# Altium footprint library HyTechDevices.PCBLIB: 298 footprints (part 4 of 19)
Each footprint in its own frame and in the unit in brackets; x right, y up, seen from the top. Pads: shape width x height; smd on the part's side, far side on the other; paste and mask are expansions set on the pad; w line width, h text height; cw(c..) or ccw(c..) is an arc to the next point about the centre after c.
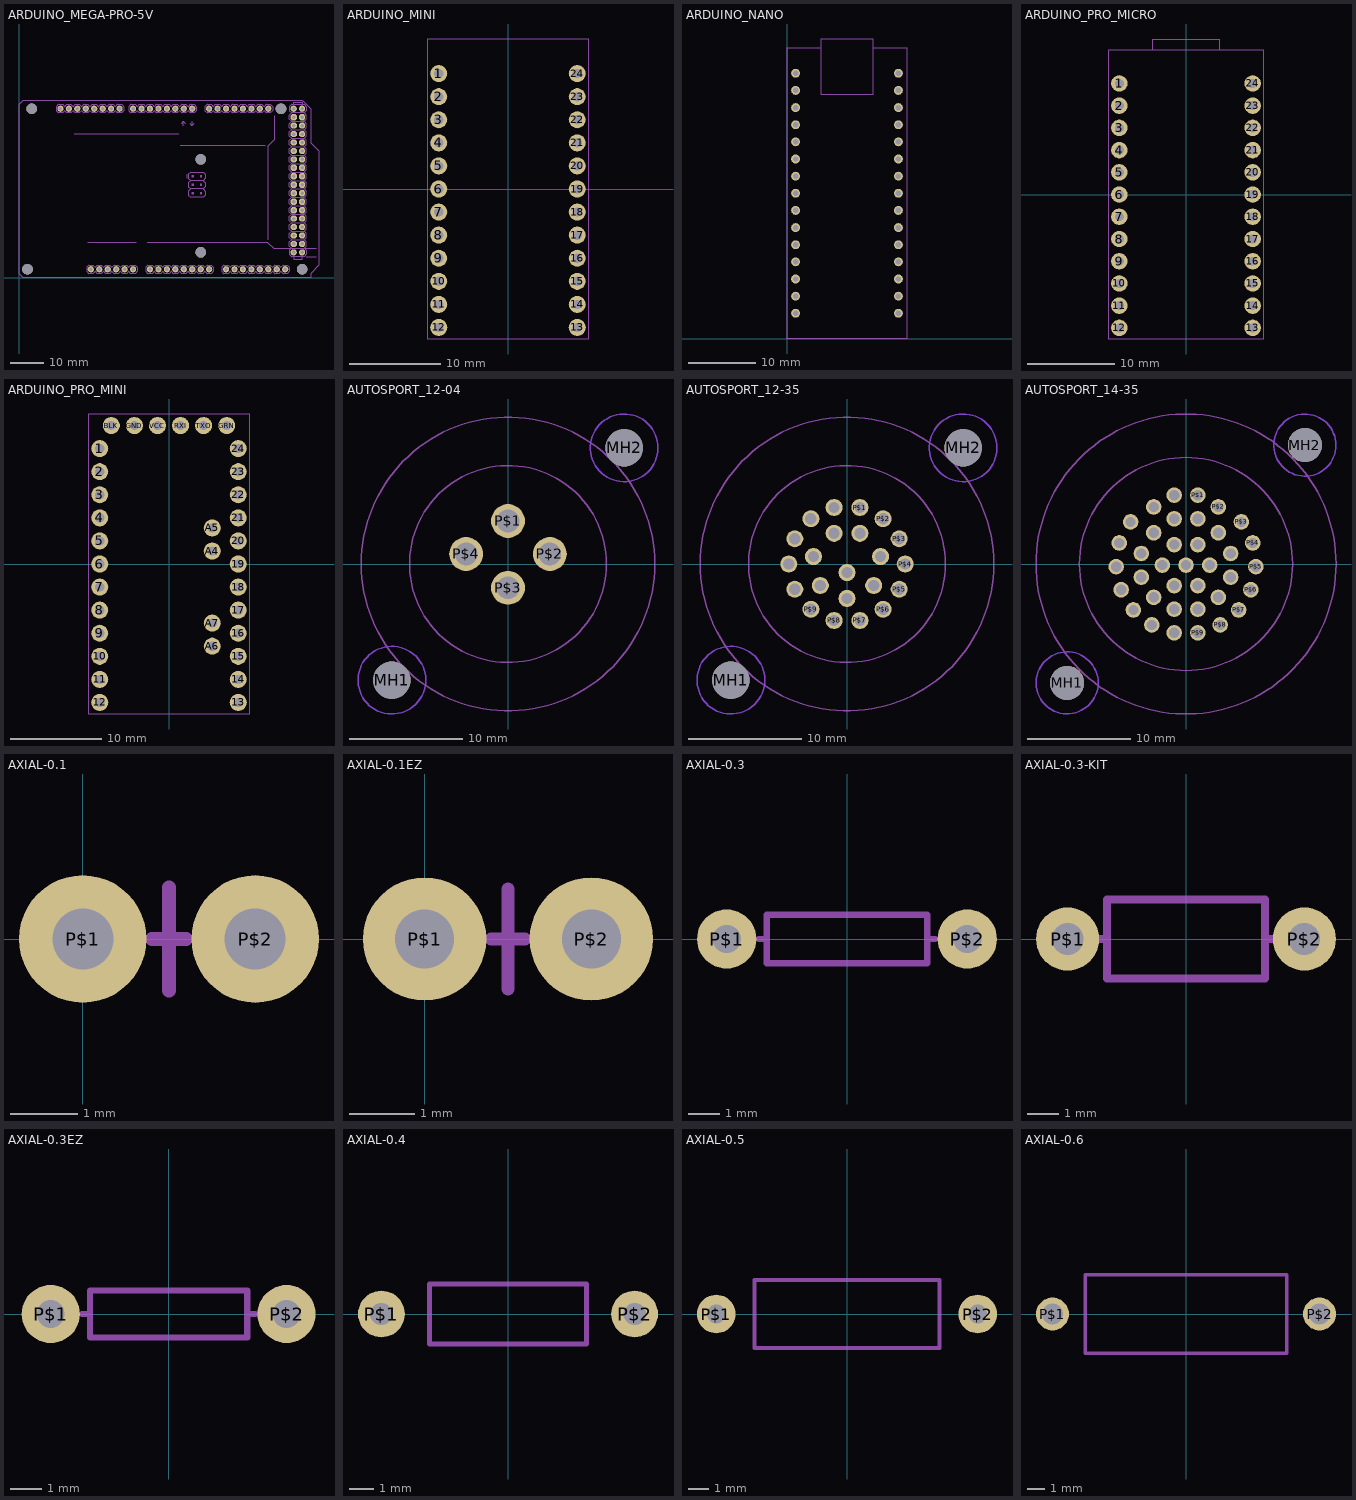
[diagram p3: the footprints below, top view; thin cyan lines are the x and y axes]

## ARDUINO_MEGA-PRO-5V [mil]
pads (88):
  round 74 hole 40: 0(2050,2000) 1(1950,2000) 2(1850,2000) 3(1750,2000) 3.3V(950,100) 4(1650,2000) 5(1550,2000) 5V@0(1050,100) 5V@1(3250,2000) 5V@2(3350,2000) 6(1450,2000) 7(1350,2000) 8(1190,2000) 9(1090,2000) 10(990,2000) 11(890,2000) 12(790,2000) 13(690,2000) 14(2250,2000) 15(2350,2000) 16(2450,2000) 17(2550,2000) 18(2650,2000) 19(2750,2000) 20(2850,2000) 21(2950,2000) A0(1550,100) A1(1650,100) A2(1750,100) A3(1850,100) A4(1950,100) A5(2050,100) A6(2150,100) A7(2250,100) A8(2450,100) A9(2550,100) A10(2650,100) A11(2750,100) A12(2850,100) A13(2950,100) A14(3050,100) A15(3150,100) AREF(490,2000) GND@0(1150,100) GND@1(1250,100) GND@2(3250,300) GND@3(3350,300) GND@4(590,2000) RESET(850,100) VIN(1350,100)
  oct 74x74 / inner round 68.37 / far side oct 74x74 hole 40: 22(3250,1900) 23(3350,1900) 24(3250,1800) 25(3350,1800) 26(3250,1700) 27(3350,1700) 28(3250,1600) 29(3350,1600) 30(3250,1500) 31(3350,1500) 32(3250,1400) 33(3350,1400) 34(3250,1300) 35(3350,1300) 36(3250,1200) 37(3350,1200) 38(3250,1100) 39(3350,1100) 40(3250,1000) 41(3350,1000) 42(3250,900) 43(3350,900) 44(3250,800) 45(3350,800) 46(3250,700) 47(3350,700) 48(3250,600) 49(3350,600) 50(3250,500) 51(3350,500) 52(3250,400) 53(3350,400)
  round 125.98 hole 125.98 unplated: MH1(150,2000) MH2(100,100) MH3(2150,1400) MH4(2150,300) MH5(3100,2000) MH6(3350,100)
Mechanical 3:
  drawing of 122 lines, arcs and shapes, not listed
Mechanical 7:
  drawing of 437 lines, arcs and shapes, not listed
  text "0" at 2065,1880 h47.6
  text "1" at 1965,1880 h47.6
  text "2" at 1865,1880 h47.6
  text "3" at 1765,1880 h47.6
  text "4" at 1665,1880 h47.6
  text "5" at 1565,1880 h47.6
  text "6" at 1465,1880 h47.6
  text "7" at 1365,1880 h47.6
  text "8" at 1215,1880 h47.6
  text "9" at 1115,1880 h47.6
  text "10" at 1015,1830 h47.6
  text "11" at 915,1830 h47.6
  text "12" at 815,1830 h47.6
  text "13" at 715,1830 h47.6
  text "14" at 2265,1845 h47.6
  text "15" at 2365,1845 h47.6
  text "16" at 2465,1845 h47.6
  text "17" at 2565,1845 h47.6
  text "18" at 2665,1845 h47.6
  text "19" at 2765,1845 h47.6
  text "20" at 2865,1845 h47.6
  text "21" at 2965,1845 h47.6
  text "22" at 3081,1870 h47.6
  text "24" at 3081,1770 h47.6
  text "26" at 3081,1670 h47.6
  text "28" at 3081,1570 h47.6
  text "30" at 3081,1470 h47.6
  text "32" at 3081,1370 h47.6
  text "34" at 3081,1270 h47.6
  text "36" at 3081,1170 h47.6
  text "38" at 3081,1070 h47.6
  text "40" at 3081,970 h47.6
  text "42" at 3081,870 h47.6
  text "44" at 3081,770 h47.6
  text "46" at 3081,670 h47.6
  text "50" at 3081,470 h47.6
  text "48" at 3081,570 h47.6
  text "52" at 3081,370 h47.6
  text "31" at 3425,1471 h47.6
  text "33" at 3425,1371 h47.6
  text "35" at 3425,1271 h47.6
  text "37" at 3425,1171 h47.6
  text "39" at 3425,1071 h47.6
  text "41" at 3425,971 h47.6
  text "43" at 3425,871 h47.6
  text "45" at 3425,771 h47.6
  text "47" at 3425,671 h47.6
  text "49" at 3425,571 h47.6
  text "51" at 3425,471 h47.6
  text "53" at 3425,371 h47.6
  text "A0" at 1580,181 h47.6
  text "A1" at 1670,181 h47.6
  text "A2" at 1780,181 h47.6
  text "A3" at 1880,181 h47.6
  text "A4" at 1980,181 h47.6
  text "A5" at 2075,181 h47.6
  text "6" at 2175,181 h47.6
  text "A7" at 2280,181 h47.6
  text "A8" at 2480,181 h47.6
  text "A9" at 2580,181 h47.6
  text "A10" at 2680,181 h47.6
  text "A11" at 2780,181 h47.6
  text "A12" at 2880,181 h47.6
  text "A13" at 2980,181 h47.6
  text "A14" at 3080,181 h47.6
  text "A15" at 3175,181 h47.6
  text "ANALOG IN" at 1560,320 h51
  text "COMMUNICATION" at 1930,1585 h51
  text "DIGITAL" at 3035,460 h51
  text "GND" at 3425,271 h34
  text "TX0" at 1965,1680 h34
  text "RX0" at 2065,1680 h34
  text "PWM" at 700,1725 h51
  text "TX3" at 2265,1680 h34
  text "RX3" at 2365,1680 h34
  text "TX2" at 2465,1680 h34
  text "RX2" at 2565,1680 h34
  text "TX1" at 2665,1680 h34
  text "RX1" at 2765,1680 h34
  text "SDA" at 2865,1680 h34
  text "SCL" at 2965,1680 h34
  text "POWER" at 1110,320 h51
  text "RESET" at 870,181 h34
  text "3.3V" at 970,181 h34
  text "5V" at 1070,181 h34
  text "GND" at 1170,181 h34
  text "GND" at 1270,181 h34
  text "Vin" at 1370,181 h34
  text "GND" at 560,1930 h47.6
  text "AREF" at 465,1930 h47.6
  text "5V" at 3150,2050 h29.75

## ARDUINO_MINI [mil]
pads (24):
  round 74 hole 40: 1(-300,500) 2(-300,400) 3(-300,300) 4(-300,200) 5(-300,100) 6(-300,0) 7(-300,-100) 8(-300,-200) 9(-300,-300) 10(-300,-400) 11(-300,-500) 12(-300,-600) 13(300,-600) 14(300,-500) 15(300,-400) 16(300,-300) 17(300,-200) 18(300,-100) 19(300,0) 20(300,100) 21(300,200) 22(300,300) 23(300,400) 24(300,500)
Mechanical 3:
  lines w5: -350,-650 -350,650 350,650 350,-650 -350,-650

## ARDUINO_NANO [mil]
pads (30):
  round 51.5 hole 31.5: 3.3V(50,1450) 5V(50,450) A0(50,1250) A1(50,1150) A2(50,1050) A3(50,950) A4(50,850) A5(50,750) A6(50,650) A7(50,550) AREF(50,1350) D0(RX)(650,250) D1(TX)(650,150) D2(650,550) D3(650,650) D4(650,750) D5(650,850) D6(650,950) D7(650,1050) D8(650,1150) D9(650,1250) D10(650,1350) D11(650,1450) D12(650,1550) D13(50,1550) GND(50,250) GND1(650,450) RST(50,350) RST1(650,350) VIN(50,150)
Mechanical 3:
  lines w5: 200,1700 200,1425 500,1425 500,1700 ; 200,1700 200,1750 500,1750 500,1700 ; 200,1700 0,1700 0,0 700,0 700,1700 500,1700
  text "Arduino Nano" at 400,400 h155

## ARDUINO_PRO_MICRO [mil]
pads (24):
  round 74 hole 40: 1(-300,500) 2(-300,400) 3(-300,300) 4(-300,200) 5(-300,100) 6(-300,0) 7(-300,-100) 8(-300,-200) 9(-300,-300) 10(-300,-400) 11(-300,-500) 12(-300,-600) 13(300,-600) 14(300,-500) 15(300,-400) 16(300,-300) 17(300,-200) 18(300,-100) 19(300,0) 20(300,100) 21(300,200) 22(300,300) 23(300,400) 24(300,500)
Mechanical 3:
  lines w5: -150,650 -150,700 150,700 150,650 ; -350,-650 -350,650 350,650 350,-650 -350,-650

## ARDUINO_PRO_MINI [mil]
pads (34):
  round 74 hole 40: 1(-300,500) 2(-300,400) 3(-300,300) 4(-300,200) 5(-300,100) 6(-300,0) 7(-300,-100) 8(-300,-200) 9(-300,-300) 10(-300,-400) 11(-300,-500) 12(-300,-600) 13(300,-600) 14(300,-500) 15(300,-400) 16(300,-300) 17(300,-200) 18(300,-100) 19(300,0) 20(300,100) 21(300,200) 22(300,300) 23(300,400) 24(300,500) A4(187.5,56.25) A5(187.5,156.25) A6(187.5,-356.25) A7(187.5,-256.25) BLK(-250,600) GND(-150,600) GRN(250,600) RXI(50,600) TXO(150,600) VCC(-50,600)
Mechanical 3:
  lines w5: -350,-650 -350,650 350,650 350,-650 -350,-650

## AUTOSPORT_12-04 [mm]
pads (6):
  round 3.3 hole 3.3 unplated: MH1(-10.289,-10.289) MH2(10.289,10.289)
  round 3 hole 2: P$1(0,3.81) P$2(3.708,0.889) P$3(0,-2.108) P$4(-3.708,0.889)
Bottom Layer keep-out:
  circle w0.127: c-10.289,-10.289 r3
  circle w0.127: c10.289,10.289 r3
Mechanical 7:
  circle w0.127: c0,0 r8.72
  circle w0.127: c0,0 r13

## AUTOSPORT_12-35 [mil]
pads (24):
  round 129.92 hole 129.92 unplated: MH1(-405.06,-405.06) MH2(405.06,405.06)
  round 59.37 hole 39.37: P$1(45,197) P$2(126,158) P$3(182,88) P$4(203,0) P$5(182,-88) P$6(126,-158) P$7(45,-197) P$8(-45,-197) P$9(-126,-158) P$10(-182,-88) P$11(-203,0) P$12(-126,158) P$13(-45,197) P$14(45,107) P$15(117,26) P$16(93,-75) P$17(-93,-75) P$18(-117,26) P$19(-45,107) P$20(0,-30) P$21(0,-120) P$22(-182,88)
Bottom Layer keep-out:
  circle w5: c-405.06,-405.06 r118.11
  circle w5: c405.06,405.06 r118.11
Mechanical 7:
  circle w5: c0,0 r343.5
  circle w5: c0,0 r511.81

## AUTOSPORT_14-35 [mil]
pads (39):
  round 129.92 hole 129.92 unplated: MH1(-452.38,-452.38) MH2(452.38,452.38)
  round 59.37 hole 39.37: P$1(45,262) P$2(123,217) P$3(211,160) P$4(254,80) P$5(266,-10) P$6(247,-98) P$7(200,-175) P$8(130,-232) P$9(45,-262) P$10(-45,-262) P$11(-130,-232) P$12(-200,-175) P$13(-247,-98) P$14(-266,-10) P$15(-254,80) P$16(-211,160) P$17(-123,217) P$18(-45,262) P$19(45,172) P$20(123,119) P$21(170,40) P$22(170,-50) P$23(123,-127) P$24(45,-172) P$25(-45,-172) P$26(-123,-127) P$27(-170,-50) P$28(-170,40) P$29(-123,119) P$30(-45,172) P$31(45,74) P$32(90,-4) P$33(45,-82) P$34(-45,-82) P$35(-90,-4) P$36(-45,74) P$37(0,-4)
Bottom Layer keep-out:
  circle w5: c-452.38,-452.38 r118.11
  circle w5: c452.38,452.38 r118.11
Mechanical 7:
  circle w5: c0,0 r405.51
  circle w5: c0,0 r570.87

## AXIAL-0.1 [mil]
pads (2):
  round 74 hole 35.43: P$1(0,0) P$2(100,0)
Mechanical 7:
  lines w8: 40,0 50,0 ; 50,-30 50,0 ; 50,30 50,0 ; 60,0 50,0

## AXIAL-0.1EZ [mil]
pads (2):
  round 74 hole 35.43: P$1(0,0) P$2(100,0)
Top Solder:
  circle w0: c0,0 r18
  circle w0: c0,0 r18
  circle w0: c100,0 r18
Bottom Solder:
  circle w0: c0,0 r40
  circle w0: c100,0 r40
Mechanical 7:
  lines w8: 40,0 50,0 ; 50,-30 50,0 ; 50,30 50,0 ; 60,0 50,0

## AXIAL-0.3 [mil]
pads (2):
  round 74 hole 35.43: P$1(-150,0) P$2(150,0)
Mechanical 7:
  lines w8: -110,0 -100,0 ; 110,0 100,0 ; -100,0 -100,-30 100,-30 100,0 ; -100,0 -100,30 100,30 100,0

## AXIAL-0.3-KIT [mil]
pads (2):
  round 80 hole 40: P$1(-150,0) P$2(150,0)
Top Solder:
  region: 150.3,-17.2 146.9,-17.28 140.55,-14.82 135.63,-10.13 132.88,-3.9 132.8,-0.5 132.71,3.07 135.28,9.74 140.2,14.91 146.73,17.81 150.3,17.9 153.82,17.84 160.28,15.04 165.18,9.97 167.76,3.42 167.7,-0.1 167.67,-3.53 164.99,-9.85 160.09,-14.66 153.73,-17.23 150.3,-17.2
  region: -150,-17.5 -153.4,-17.58 -159.75,-15.12 -164.67,-10.43 -167.42,-4.2 -167.5,-0.8 -167.59,2.77 -165.02,9.44 -160.1,14.61 -153.57,17.51 -150,17.6 -146.48,17.54 -140.02,14.74 -135.12,9.67 -132.54,3.12 -132.6,-0.4 -132.63,-3.83 -135.31,-10.15 -140.21,-14.96 -146.57,-17.53 -150,-17.5
Bottom Solder:
  region: 150.4,-37.2 146.75,-37.25 139.56,-35.92 132.77,-33.21 126.64,-29.24 121.4,-24.14 117.26,-18.12 114.37,-11.4 112.85,-4.25 112.8,-0.6 112.76,3.14 114.13,10.49 116.9,17.43 120.98,23.69 126.21,29.04 132.37,33.27 139.25,36.21 146.56,37.76 150.3,37.8 154.04,37.75 161.35,36.18 168.21,33.22 174.37,28.98 179.58,23.61 183.64,17.34 186.4,10.39 187.75,3.04 187.7,-0.7 187.66,-4.33 186.17,-11.45 183.31,-18.13 179.21,-24.14 174.01,-29.22 167.93,-33.19 161.18,-35.9 154.03,-37.24 150.4,-37.2
  region: -149.9,-37.5 -153.55,-37.55 -160.74,-36.22 -167.53,-33.51 -173.66,-29.54 -178.9,-24.44 -183.04,-18.42 -185.93,-11.7 -187.45,-4.55 -187.5,-0.9 -187.54,2.84 -186.17,10.19 -183.4,17.13 -179.32,23.39 -174.09,28.74 -167.93,32.97 -161.05,35.91 -153.74,37.46 -150,37.5 -146.26,37.45 -138.95,35.88 -132.09,32.92 -125.93,28.68 -120.72,23.31 -116.66,17.04 -113.9,10.09 -112.55,2.74 -112.6,-1 -112.64,-4.63 -114.13,-11.75 -116.99,-18.43 -121.09,-24.44 -126.29,-29.52 -132.37,-33.49 -139.12,-36.2 -146.27,-37.54 -149.9,-37.5
Mechanical 7:
  lines w10: -110,0 -100,0 ; 110,0 100,0 ; -100,0 -100,-50 100,-50 100,0 ; -100,0 -100,50 100,50 100,0

## AXIAL-0.3EZ [mil]
pads (2):
  round 74 hole 35.43: P$1(-150,0) P$2(150,0)
Top Solder:
  circle w0: c-150,0 r20
  circle w0: c150,0 r20.62
Bottom Solder:
  circle w0: c-150,0 r40.31
  circle w0: c150,0 r41.23
Mechanical 7:
  lines w8: -110,0 -100,0 ; 110,0 100,0 ; -100,0 -100,-30 100,-30 100,0 ; -100,0 -100,30 100,30 100,0

## AXIAL-0.4 [mil]
pads (2):
  round 74 hole 35.43: P$1(-200,0) P$2(200,0)
Mechanical 7:
  lines w8: -124.02,-47.24 -124.02,47.24 124.02,47.24 124.02,-47.24 -124.02,-47.24

## AXIAL-0.5 [mil]
pads (2):
  round 74 hole 35.43: P$1(-250,0) P$2(250,0)
Mechanical 7:
  lines w8: -177.17,-64.96 -177.17,64.96 177.17,64.96 177.17,-64.96 -177.17,-64.96

## AXIAL-0.6 [mil]
pads (2):
  round 74 hole 47.24: P$1(-300,0) P$2(300,0)
Mechanical 7:
  lines w8: -226.38,-88.58 -226.38,88.58 226.38,88.58 226.38,-88.58 -226.38,-88.58